# Altium schematic symbol library TPS22953DQCR.SchLib: 1 symbol
Pins are listed as number, name and electrical type; pins without a type are passive.

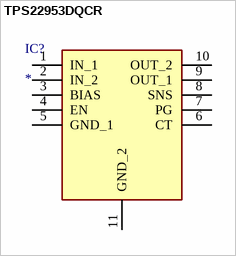
[diagram p0: symbol TPS22953DQCR]

## TPS22953DQCR
designator IC?
Integrated Circuit; Manufacturer_Name: Texas Instruments; Manufacturer_Part_Number: TPS22953DQCR; Datasheet Link: https://www.ti.com/lit/ds/symlink/tps22953.pdf?ts=1619606232254&ref_url=https%253A%252F%252Fwww.ti.com%252Fstore%252Fti%252Fen%252Fp%252Fproduct%252F%253Fp%253DTPS22953DQCR; Height: 0.8mm; Mouser Part Number: 595-TPS22953DQCR; Mouser Price/Stock: https://www.mouser.co.uk/ProductDetail/Texas-Instruments/TPS22953DQCR?qs=lGsJEpdjMw2%2Fit%2FtgfzifQ%3D%3D; Arrow Part Number: TPS22953DQCR; Arrow Price/Stock: https://www.arrow.com/en/products/tps22953dqcr/texas-instruments?utm_currency=USD&region=nac
footprint SON50P200X300X80-11N
pins: 1 IN_1, 2 IN_2, 3 BIAS, 4 EN, 5 GND_1, 6 CT, 7 PG, 8 SNS, 9 OUT_1, 10 OUT_2, 11 GND_2